# Altium footprint library PCF8574.PcbLib: 1 footprints
Each footprint in its own frame and in the unit in brackets; x right, y up, seen from the top. Pads: shape width x height; smd on the part's side, far side on the other; paste and mask are expansions set on the pad; w line width, h text height; cw(c..) or ccw(c..) is an arc to the next point about the centre after c.
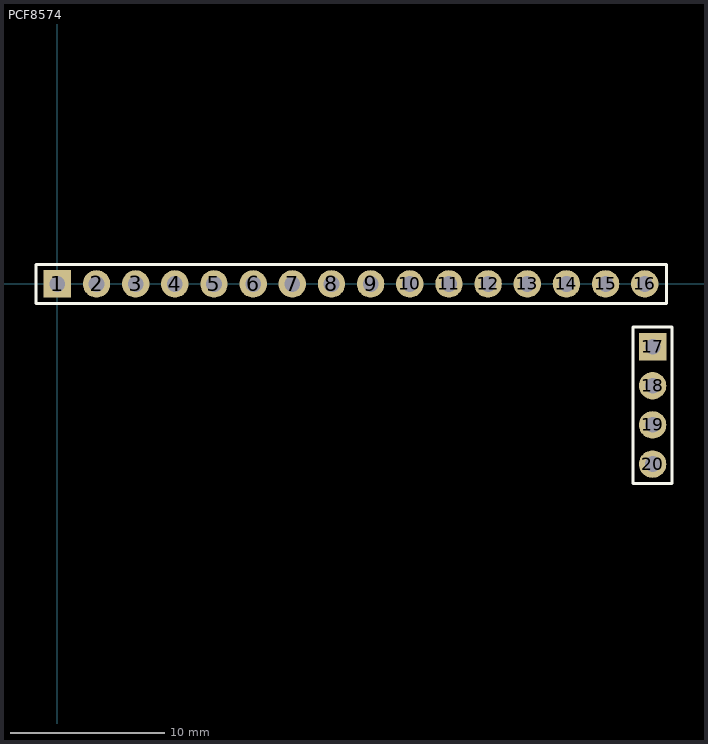
[diagram p0: the footprint, top view; thin cyan lines are the x and y axes]

## PCF8574 [mil]
pads (20):
  rect 70x70 hole 40: 1(0,0) 17(1520,-160)
  round 70 hole 40: 2(100,0) 3(200,0) 4(300,0) 5(400,0) 6(500,0) 7(600,0) 8(700,0) 9(800,0) 10(900,0) 11(1000,0) 12(1100,0) 13(1200,0) 14(1300,0) 15(1400,0) 16(1500,0) 18(1520,-260) 19(1520,-360) 20(1520,-460)
Top Overlay:
  lines w7.87: -55,-50 -55,50 25,50 950,50 1555,50 1555,-50 950,-50 -55,-50 ; 1470,-510 1570,-510 1570,-110 1470,-110 1470,-510
3D body "PCF8574.STEP": height 330.31, standoff 96.06, extent -61.93,-659.33 1571.93,49.33
3D body "2.54X2_pinheader_male.SLDPRT": height 326.77, standoff -224.41, extent 1350,-50.01 1550,49.99
3D body "2.54X2_pinheader_male.SLDPRT": height 326.77, standoff -224.41, extent 1150,-50.01 1350,49.99
3D body "2.54X2_pinheader_male.SLDPRT": height 326.77, standoff -224.41, extent 949.99,-50.01 1149.99,49.99
3D body "2.54X2_pinheader_male.SLDPRT": height 326.77, standoff -224.41, extent -50,-50 150,50
3D body "2.54X2_pinheader_male.SLDPRT": height 326.77, standoff -224.41, extent 150,-50 350,50
3D body "2.54X2_pinheader_male.SLDPRT": height 326.77, standoff -224.41, extent 350,-50 550,50
3D body "2.54X2_pinheader_male.SLDPRT": height 326.77, standoff -224.41, extent 550,-50 750,50
3D body "2.54X2_pinheader_male.SLDPRT": height 326.77, standoff -224.41, extent 750,-50 950,50
3D body "2.54X2_pinheader_male.SLDPRT": height 326.77, standoff -224.41, extent 1470.01,-510.01 1570.01,-310.01
3D body "2.54X2_pinheader_male.SLDPRT": height 326.77, standoff -224.41, extent 1470.01,-310.01 1570.01,-110.01